# EAGLE library part LTC3105 (library habexpico8)
LTC Series
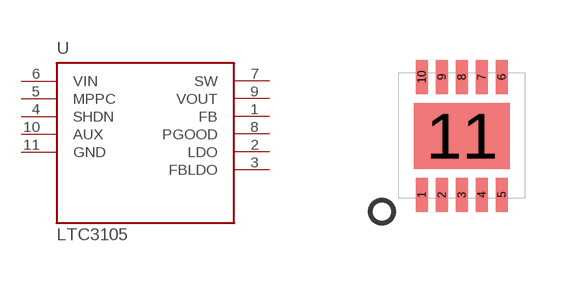
[diagram p4: symbol with the pads of QFN-10_PAD; footprint QFN-10_PAD]

Designator prefix U

## LTC3105  [QFN-10_PAD]
1  FB  pas
2  LDO  sup
3  FBLDO  sup
4  SHDN  in
5  MPPC  in
6  VIN  sup
7  SW  pas
8  PGOOD  pas
9  VOUT  pas
10  AUX  pas
11  GND  sup

## Footprint QFN-10_PAD (pad centres in mm)
smd 0.297 x 0.85: 1 -1,-1.475; 2 -0.5,-1.475; 3 0,-1.475; 4 0.5,-1.475; 5 1,-1.475; 6 1,1.475; 7 0.5,1.475; 8 0,1.475; 9 -0.5,1.475; 10 -1,1.475
smd 2.4 x 1.65: 11 0,0